# EAGLE library part ADXL202E (library analog-devices)
Low-Cost +-2 g Dual-Axis Accelerometer with Duty Cycle Output Source: www.analog.com/UploadedFiles/Data_Sheets/53728567227477ADXL202E_a.pdf
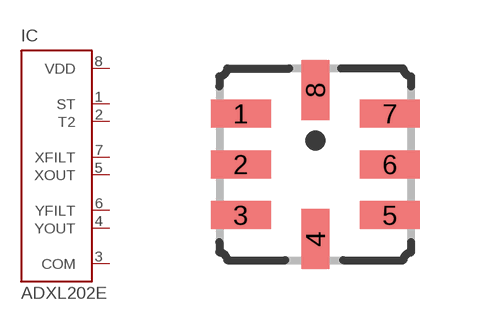
[diagram p24: symbol with the pads of LCC8; footprint LCC8]

Designator prefix IC

## ADXL202E  [LCC8]
1  ST  in
2  T2  in
3  COM  in
4  YOUT  in
5  XOUT  in
6  YFILT  in
7  XFILT  in
8  VDD  in

## Footprint LCC8 (pad centres in mm)
8-Terminal Ceramic Leadless Chip Carrier [LCC] (E-8) Source: www.analog.com/UploadedFiles/Packages/189346426E_8.pdf
smd 1.5 x 0.7: 1 -1.867,1.27; 2 -1.867,0; 3 -1.867,-1.27; 5 1.867,-1.27; 6 1.867,0; 7 1.867,1.27
smd 0.7 x 1.5: 4 0,-1.867; 8 0,1.867